# EAGLE library part 7X_CONN (library PI-SHIELD, Solenoid-Backplane)
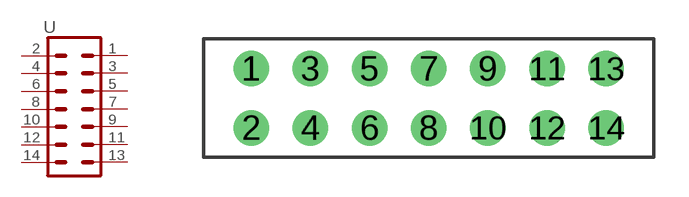
[diagram p0: symbol with the pads of IPL7X2; footprint IPL7X2]

Designator prefix -

## 7X_CONN  [IPL7X2]
1  14  pas
2  13  pas
3  16  pas
4  15  pas
5  18  pas
6  17  pas
7  20  pas
8  19  pas
9  22  pas
10  21  pas
11  24  pas
12  23  pas
13  1  pas
14  2  pas

## Footprint IPL7X2 (pad centres in mm)
drill 1.016 pad 1.524: 1 2.032,3.81; 2 2.032,1.27; 3 4.572,3.81; 4 4.572,1.27; 5 7.112,3.81; 6 7.112,1.27; 7 9.652,3.81; 8 9.652,1.27; 9 12.192,3.81; 10 12.192,1.27; 11 14.732,3.81; 12 14.732,1.27; 13 17.272,3.81; 14 17.272,1.27